# EAGLE library part ADG3308 (library rpibout)
ADG3304 Analog Devices Bidirectional Voltage Level Translator
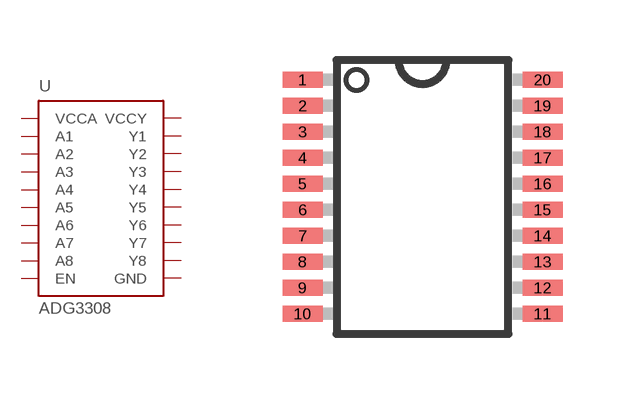
[diagram p7: symbol with the pads of TSSOP20; footprint TSSOP20]

Designator prefix U

## ADG3308  [TSSOP20]
1  VCCA  pwr
2  A1
3  A2
4  A3
5  A4
6  A5
7  A6
8  A7
9  A8
10  EN  in
11  GND  pwr
12  Y8
13  Y7
14  Y6
15  Y5
16  Y4
17  Y3
18  Y2
19  Y1
20  VCCY  pwr

## Footprint TSSOP20 (pad centres in mm)
TSSOP-20
smd 1 x 0.4: 1 -3,2.925; 2 -3,2.275; 3 -3,1.625; 4 -3,0.975; 5 -3,0.325; 6 -3,-0.325; 7 -3,-0.975; 8 -3,-1.625; 9 -3,-2.275; 10 -3,-2.925; 11 3,-2.925; 12 3,-2.275; 13 3,-1.625; 14 3,-0.975; 15 3,-0.325; 16 3,0.325; 17 3,0.975; 18 3,1.625; 19 3,2.275; 20 3,2.925